# EAGLE library part 750314782 (library WE-PP_TRANSFORMER)
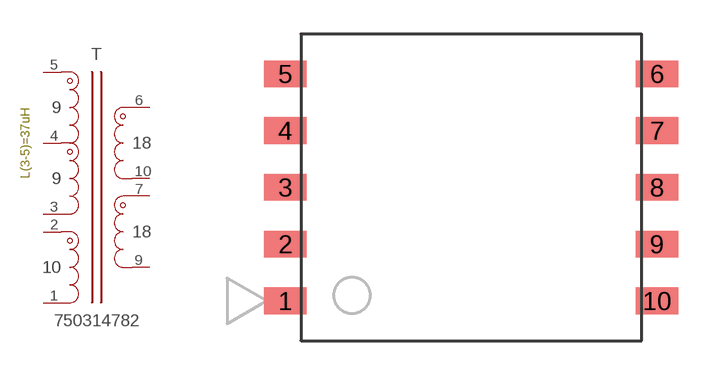
[diagram p4: symbol with the pads of 750314782; footprint 750314782]

Designator prefix T

## 750314782 (MARK: 750314782; MF: Würth Elektronik; MPN: 750314782)  [750314782]
1  AUX-B
2  AUX-A
3  PRI-C
4  PRI-B
5  PRI-A
6  SEC1-A
7  SEC2-A
9  SEC2-B
10  SEC1-B

## Footprint 750314782 (pad centres in mm)
smd 1.88 x 1.17: 1 -8.18,-5; 2 -8.18,-2.5; 3 -8.18,0; 4 -8.18,2.5; 5 -8.18,5; 6 8.18,5; 7 8.18,2.5; 8 8.18,0; 9 8.18,-2.5; 10 8.18,-5